# Altium schematic symbol library 2020-10-31_05-21-41.SchLib: 2 symbols
Pins are listed as number, name and electrical type; pins without a type are passive.

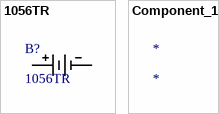
[diagram p0: symbols 1056TR to Component_1]

## 1056TR
designator B?
No Description Available; Vendor: Keystone Electronics; Built_By: EMA_Cory; SourceLibrary: Keystone Electronics_Complete_2020-01-22; Datasheet: http://www.keyelco.com/product-pdf.cfm?p=715; Manufacturer_Part_Number: 1056TR; Copyright: Copyright (C) 2018 Accelerated Designs. All rights reserved; RefDes: RefDes; Type: DEV
footprint 1048P_KEY
pins: 1, 2

## Component_1
designator *